# Altium footprint library TO-92.PcbLib: 1 footprints
Each footprint in its own frame and in the unit in brackets; x right, y up, seen from the top. Pads: shape width x height; smd on the part's side, far side on the other; paste and mask are expansions set on the pad; w line width, h text height; cw(c..) or ccw(c..) is an arc to the next point about the centre after c.
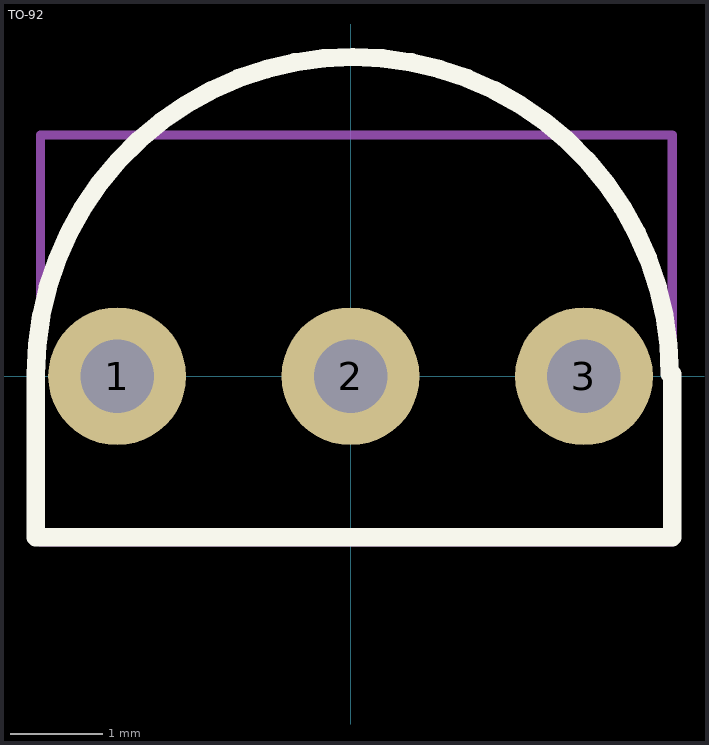
[diagram p0: the footprint, top view; thin cyan lines are the x and y axes]

## TO-92 [mm]
height 1.1
pads (3):
  round 1.5 hole 0.8: 1(-2.54,0) 2(0,0) 3(2.54,0)
Top Overlay:
  lines w0.2: 3.475,0.025 ccw(c0.025,0.025) -3.425,0.025 -3.425,-1.75 3.5,-1.75 3.5,0.025
Top Assembly:
  lines w0.1: -3.375,-1.8 3.5,-1.8 3.5,2.625 -3.375,2.625 -3.375,-1.8
  text "'.Designator'" at 0.375,-0.825 h0.7
3D body "ALSRobot-TO-92W.STEP": height 8.7, standoff -2.6, extent -2.765,-1.55 2.765,2.538